# Altium schematic symbol library IP4220CZ6.SchLib: 1 symbol
Pins are listed as number, name and electrical type; pins without a type are passive.

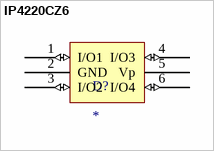
[diagram p0: symbol IP4220CZ6]

## IP4220CZ6
designator D?
pins: 1 I/O1 (io), 2 GND (power), 3 I/O2 (io), 4 I/O3 (io), 5 Vp (power), 6 I/O4 (io)